# Altium schematic symbol library Interface_HDMI.SchLib: 2 symbols
Pins are listed as number, name and electrical type; pins without a type are passive.

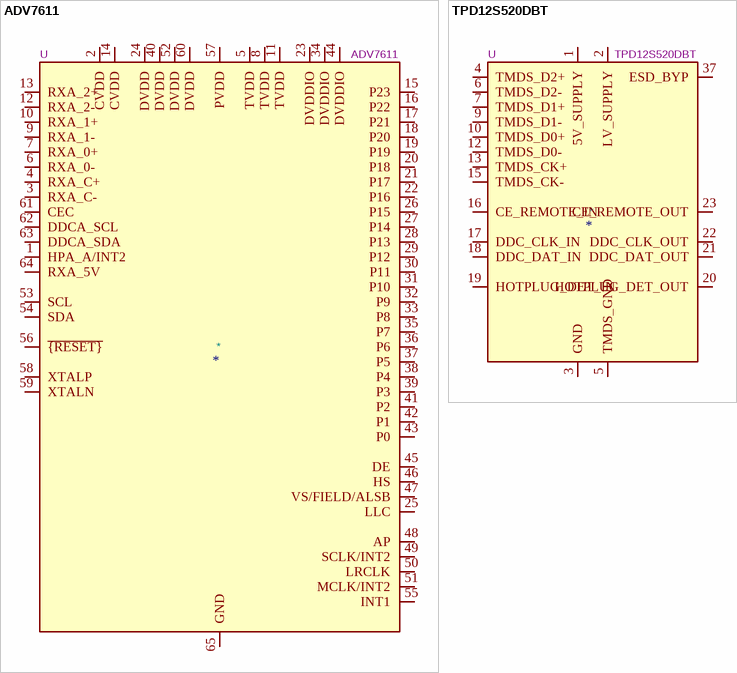
[diagram p0: symbols ADV7611 to TPD12S520DBT]

## ADV7611
designator *  value ADV7611  Reference: U
ki_keywords: hdmi; ki_description: Low Power 165MHz HDMI Receiver, LQFP-64; ki_fp_filters: LQFP*1EP*10x10mm*P0.5mm*; Footprint: Package_QFP:LQFP-64-1EP_10x10mm_P0.5mm_EP5x5mm; Datasheet: https://www.analog.com/media/en/technical-documentation/data-sheets/adv7611.pdf
pins: 1 HPA_A/INT2, 2 CVDD, 3 RXA_C-, 4 RXA_C+, 5 TVDD, 6 RXA_0-, 7 RXA_0+, 8 TVDD, 9 RXA_1-, 10 RXA_1+, 11 TVDD, 12 RXA_2-, 13 RXA_2+, 14 CVDD, 15 P23, 16 P22, 17 P21, 18 P20, 19 P19, 20 P18, 21 P17, 22 P16, 23 DVDDIO, 24 DVDD, 25 LLC, 26 P15, 27 P14, 28 P13, 29 P12, 30 P11, 31 P10, 32 P9, 33 P8, 34 DVDDIO, 35 P7, 36 P6, 37 P5, 38 P4, 39 P3, 40 DVDD, 41 P2, 42 P1, 43 P0, 44 DVDDIO, 45 DE, 46 HS, 47 VS/FIELD/ALSB, 48 AP, 49 SCLK/INT2, 50 LRCLK, 51 MCLK/INT2, 52 DVDD, 53 SCL, 54 SDA, 55 INT1, 56 ~{{RESET}}, 57 PVDD, 58 XTALP, 59 XTALN, 60 DVDD, 61 CEC, 62 DDCA_SCL, 63 DDCA_SDA, 64 RXA_5V, 65 GND

## TPD12S520DBT
designator *  value TPD12S520DBT  Reference: U
ki_keywords: hdmi; ki_description: HDMI Receiver Port Protection and Interface Device, TSSOP-38; ki_fp_filters: TSSOP*4.4x9.7mm*P0.5mm*; Footprint: Package_SO:TSSOP-38_4.4x9.7mm_P0.5mm; Datasheet: http://www.ti.com/lit/ds/symlink/tpd12s520.pdf
pins: 1 5V_SUPPLY, 2 LV_SUPPLY, 3 GND, 4 TMDS_D2+, 5 TMDS_GND, 6 TMDS_D2-, 7 TMDS_D1+, 8 TMDS_GND hidden, 9 TMDS_D1-, 10 TMDS_D0+, 11 TMDS_GND hidden, 12 TMDS_D0-, 13 TMDS_CK+, 14 TMDS_GND hidden, 15 TMDS_CK-, 16 CE_REMOTE_IN, 17 DDC_CLK_IN, 18 DDC_DAT_IN, 19 HOTPLUG_DET_IN, 20 HOTPLUG_DET_OUT, 21 DDC_DAT_OUT, 22 DDC_CLK_OUT, 23 CE_REMOTE_OUT, 24 TMDS_CK- hidden, 25 TMDS_GND hidden, 26 TMDS_CK+ hidden, 27 TMDS_D0- hidden, 28 TMDS_GND hidden, 29 TMDS_D0+ hidden, 30 TMDS_D1- hidden, 31 TMDS_GND hidden, 32 TMDS_D1+ hidden, 33 TMDS_D2- hidden, 34 TMDS_GND hidden, 35 TMDS_D2+ hidden, 36 GND hidden, 37 ESD_BYP, 38 NC hidden